# Altium schematic symbol library Jumpers.SCHLIB: 3 symbols
Pins are listed as number, name and electrical type; pins without a type are passive.

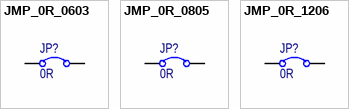
[diagram p0: symbols JMP_0R_0603 to JMP_0R_1206]

## JMP_0R_0603
designator JP?, comment value 0R  (hidden comment: 5110 Keystone)  (no BOM)
Jumper; Chip; 0R; 0603; 500mW; Manufacturer Part Number: 5110; ComponentLink1Description: Datasheet; ComponentLink1URL: https://www.keyelco.com/userAssets/file/M65p54.pdf; ComponentLink2Description: Supplier Info; ComponentLink2URL: https://www.digikey.com/en/products/detail/keystone-electronics/5110/5118870?s=N4IgTCBcDaINIFMCeBnALgewHYIAQFYBGQgBhAF0BfIA; Manufacturer: Keystone; Supplier 1: Digi-Key; Supplier Part Number 1: 36-5110CT-ND
footprint JumperSMD_0603 (Chip Resistor, Body 1.6x0.8mm (LxW typ), IPC High Density)
pins: 1, 2

## JMP_0R_0805
designator JP?, comment value 0R  (hidden comment: 5106 Keystone)  (no BOM)
Jumper; Chip; 0R; 0805; 500mW; Manufacturer Part Number: 5106; ComponentLink1Description: Datasheet; ComponentLink1URL: https://www.keyelco.com/userAssets/file/M65p54.pdf; ComponentLink2Description: Supplier Info; ComponentLink2URL: https://www.digikey.com/en/products/detail/5106/36-5106CT-ND/5118856?utm_campaign=buynow&utm_medium=aggregator&curr=usd&utm_source=octopart; Manufacturer: Keystone; Supplier 1: Digi-Key; Supplier Part Number 1: 36-5106CT-ND
footprint JumperSMD_0805_INITIAL (Chip Resistor, Body 1.6x0.8mm (LxW typ), IPC High Density)
pins: 1, 2

## JMP_0R_1206
designator JP?, comment value 0R  (hidden comment: 5108 Keystone)  (no BOM)
Jumper; Chip; 0R; 1206; 500mW; Manufacturer Part Number: 5108; ComponentLink1Description: Datasheet; ComponentLink1URL: https://www.keyelco.com/userAssets/file/M65p54.pdf; ComponentLink2Description: Supplier Info; ComponentLink2URL: https://www.digikey.com/en/products/detail/5108/36-5108CT-ND/5118857?utm_campaign=buynow&utm_medium=aggregator&curr=usd&utm_source=octopart; Manufacturer: Keystone; Supplier 1: Digi-Key; Supplier Part Number 1: 36-5108CT-ND
footprint JumperSMD_1206_INITIAL (Chip Resistor, Body 1.6x0.8mm (LxW typ), IPC High Density)
pins: 1, 2